# Altium schematic symbol library 002-H-01 SLS to CAN.SchLib: 26 symbols
Pins are listed as number, name and electrical type; pins without a type are passive.

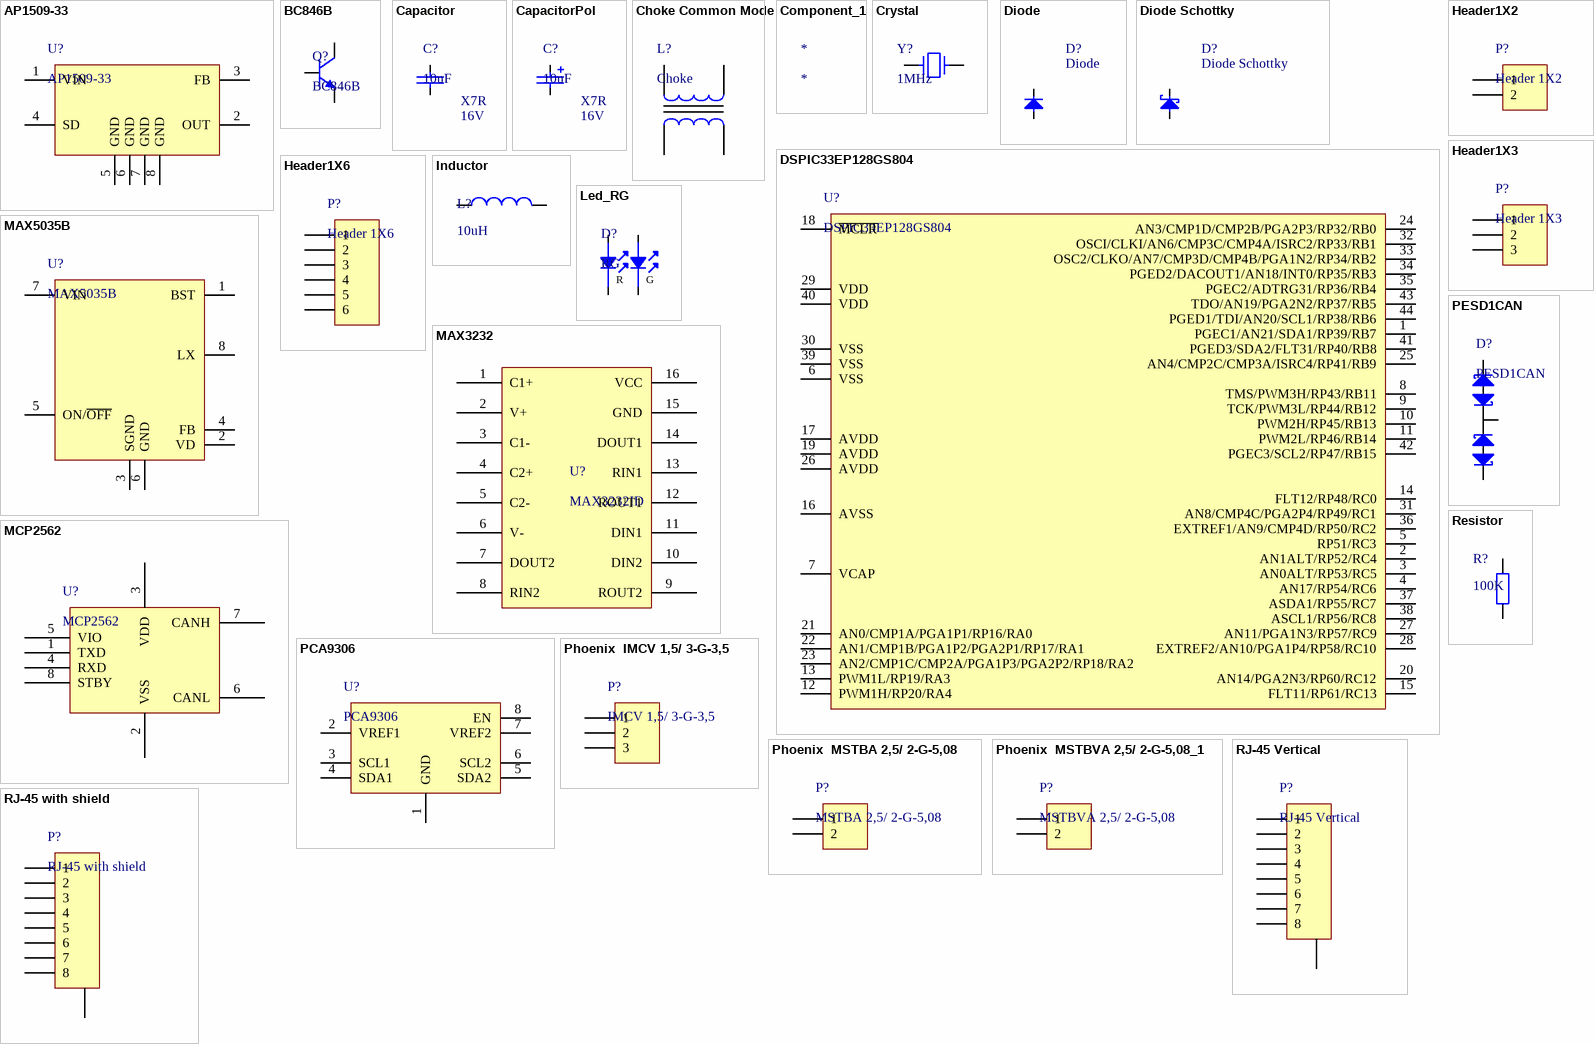
[diagram p0: symbols AP1509-33 to RJ-45 with shield]

## AP1509-33
designator U?
150KHz, 2A PWM BUCK DC/DC CONVERTER; Manufacturer: Diodes Inc; Manufacturer Part No: AP1509-33SG-13; Farnell Ordercode: 1825322; Price: 0.75
footprint SOIC-8N (SOIC, 8-Leads, Body 4.9x3.9mm (max), Pitch 1.27mm, IPC Medium Density)
pins: 1 VIN, 2 OUT, 3 FB, 4 SD, 5 GND, 6 GND, 7 GND, 8 GND

## BC846B
designator Q?
Manufacturer: -; Manufacturer Part No: -; Farnell Ordercode: -; Price: 0.00
footprint SOT23-3N (SOT23, 3-Leads, Body 3.1x3.0mm (max), Pitch 0.95mm, IPC Medium Density)
pins: 1 B, 2 E, 3 C

## Capacitor
designator C?, comment 10uF  Dielectric: X7R  VoltageRating: 16V
Capacitor; Manufacturer: -; Manufacturer Part No: -; Farnell Ordercode: -; Price: 0.00
footprint CAP0805 (Chip Capacitor, 2-Leads, Body 2.0x1.3mm, IPC Medium Density)
footprint CAP1210 (Chip Capacitor, 2-Leads, Body 3.2x2.5mm, IPC Medium Density)
pins: 1, 2

## CapacitorPol
designator C?, comment 10uF  Dielectric: X7R  VoltageRating: 16V
Capacitor Pol; Manufacturer: -; Manufacturer Part No: -; Farnell Ordercode: -; Price: 0.00
footprint CAPP8383X62N (Capacitor SMD, 2-Leads, Body 8.3x8.3mm, IPC Medium Density)
footprint CAPAE4243X55M (Aluminum Electrolytic Capacitor, Body 4,30x4,30x5,50mm, IPC Low Density)
pins: 1, 2

## Choke Common Mode
designator L?, comment Choke
Choke common mode; Manufacturer: *; Manufacturer Part No: *; Farnell Ordercode: *; Price: 0.00
footprint IND200P450X300-4N (IND, 4-Leads, Body 3.4x4.7mm (max), Pitch 2.00mm, IPC Medium Density)
pins: 1, 2, 3, 4

## Component_1
designator *

## Crystal
designator Y?, comment 1MHz
Crystal; Manufacturer: -; Manufacturer Part No: -; Farnell Ordercode: -; Price: 0.00
footprint XT49M-2016M (Crystal, 2-Leads, Body 11.0x4.7mm, IPC Medium Density)
pins: 1, 2

## Diode
designator D?
Manufacturer: -; Manufacturer Part No: -; Farnell Ordercode: -; Price: 0.00
footprint DIODEDO-214AC (Molded Diode, 2-Leads, Body 4.4x2.7mm, IPC Medium Density)
pins: 1 K, 2 A

## Diode Schottky
designator D?
Manufacturer: -; Manufacturer Part No: -; Farnell Ordercode: -; Price: 0.00
footprint DIODEDO-214AC (Molded Diode, 2-Leads, Body 4.4x2.7mm, IPC Medium Density)
pins: 1 K, 2 A

## DSPIC33EP128GS804
designator U?
16-Bit Digital Signal Controllers fo  r Digital Power Applications with   Interconnected High-Speed PWM, ADC, PGA and Comparators; Manufacturer: Microchip; Manufacturer Part No: DSPIC33EP128GS804-I/PT; Farnell Ordercode: 2706170; Price: 4.44
footprint TQFP80P1200X1200X120-44N (TQFP, 44-Leads, Body 12.0x12.0mm (max), Pitch 0.80mm, IPC Medium Density)
pins: 1 PGEC1/AN21/SDA1/RP39/RB7, 2 AN1ALT/RP52/RC4, 3 AN0ALT/RP53/RC5, 4 AN17/RP54/RC6, 5 RP51/RC3, 6 VSS, 7 VCAP, 8 TMS/PWM3H/RP43/RB11, 9 TCK/PWM3L/RP44/RB12, 10 PWM2H/RP45/RB13, 11 PWM2L/RP46/RB14, 12 PWM1H/RP20/RA4, 13 PWM1L/RP19/RA3, 14 FLT12/RP48/RC0, 15 FLT11/RP61/RC13, 16 AVSS, 17 AVDD, 18 ~{MCLR}, 19 AVDD, 20 AN14/PGA2N3/RP60/RC12, 21 AN0/CMP1A/PGA1P1/RP16/RA0, 22 AN1/CMP1B/PGA1P2/PGA2P1/RP17/RA1, 23 AN2/CMP1C/CMP2A/PGA1P3/PGA2P2/RP18/RA2, 24 AN3/CMP1D/CMP2B/PGA2P3/RP32/RB0, 25 AN4/CMP2C/CMP3A/ISRC4/RP41/RB9, 26 AVDD, 27 AN11/PGA1N3/RP57/RC9, 28 EXTREF2/AN10/PGA1P4/RP58/RC10, 29 VDD, 30 VSS, 31 AN8/CMP4C/PGA2P4/RP49/RC1, 32 OSCI/CLKI/AN6/CMP3C/CMP4A/ISRC2/RP33/RB1, 33 OSC2/CLKO/AN7/CMP3D/CMP4B/PGA1N2/RP34/RB2, 34 PGED2/DACOUT1/AN18/INT0/RP35/RB3, 35 PGEC2/ADTRG31/RP36/RB4, 36 EXTREF1/AN9/CMP4D/RP50/RC2, 37 ASDA1/RP55/RC7, 38 ASCL1/RP56/RC8, 39 VSS, 40 VDD, 41 PGED3/SDA2/FLT31/RP40/RB8, 42 PGEC3/SCL2/RP47/RB15, 43 TDO/AN19/PGA2N2/RP37/RB5, 44 PGED1/TDI/AN20/SCL1/RP38/RB6

## Header1X2
designator P?, comment Header 1X2
Connector 1X2; Manufacturer: -; Manufacturer Part No: -; Farnell Ordercode: -; Price: 0.00
footprint MC000168
pins: 1, 2

## Header1X3
designator P?, comment Header 1X3
Connector 1X3; Manufacturer: -; Manufacturer Part No: -; Farnell Ordercode: -; Price: 0.00
footprint Header1X3P100 (Header 1X3, 100mil pitch)
pins: 1, 2, 3

## Header1X6
designator P?, comment Header 1X6
Connector 1X6; Manufacturer: -; Manufacturer Part No: -; Farnell Ordercode: -; Price: 0.00
footprint Header1X6P100 (Header 1X6, 100mil pitch)
pins: 1, 2, 3, 4, 5, 6

## Inductor
designator L?, comment 10uH
Inductor; Manufacturer: -; Manufacturer Part No: -; Farnell Ordercode: -; Price: 0.00
footprint INDP183140X66N (Precision Wire Wound Inductor, 2-Leads, Body 18.3x14.0mm, IPC Medium Density)
footprint INDP3030X28N (Precision Wire Wound Inductor, 2-Leads, Body 3,00x3,00mm, IPC Medium Density)
pins: 1, 2

## Led_RG
designator D?, comment RG
Led RG; Manufacturer: KINGBRIGHT; Manufacturer Part No: KPTB-1612LVSURKCGKC; Farnell Ordercode: 2846591; Price: 0.00
footprint CAC-75P125X160-4N (Chip Array, Concave, 4-Leads, Pitch 0,75mm,  Body 1,25x1,60mm,  IPC Medium Density)
pins: 1 A_R, 2 K_R, 3 A_G, 4 K_G
text: R; G

## MAX3232
designator U?, comment MAX3232ID
RS232 tot TTL converter; Manufacturer: TEXAS INSTRUMENTS; Manufacturer Part No: MAX3232ID; Farnell Ordercode: 1652282; Price: 1.69
footprint SOIC16_MAX3232 (SOIC, 16-Leads, Body 9,90x3,90mm, Pitch 1,27mm, IPC Medium Density)
pins: 1 C1+, 2 V+, 3 C1-, 4 C2+, 5 C2-, 6 V-, 7 DOUT2, 8 RIN2, 9 ROUT2, 10 DIN2, 11 DIN1, 12 ROUT1, 13 RIN1, 14 DOUT1, 15 GND, 16 VCC

## MAX5035B
designator U?
5V 1A, 76V, High-Efficiency MAXPower Step-Down DC-DC Converter; Manufacturer: Maxim Integrated Products; Manufacturer Part No: MAX5035BUSA+T; Farnell Ordercode: 2799102; Price: 3.26
footprint SOIC-8N (SOIC, 8-Leads, Body 4.9x3.9mm (max), Pitch 1.27mm, IPC Medium Density)
pins: 1 BST, 2 VD, 3 SGND, 4 FB, 5 ON/~{OFF}, 6 GND, 7 VIN, 8 LX

## MCP2562
designator U?
CAN Bus, Transceiver, CAN, LIN, 1, 1, 4.5 V, 5.5 V, SOIC; Manufacturer: Microchip; Manufacturer Part No: MCP2562-E/SN; Farnell Ordercode: 2362839; price: 0.79
footprint SOIC-8N (SOIC, 8-Leads, Body 4.9x3.9mm (max), Pitch 1.27mm, IPC Medium Density)
pins: 1 TXD, 2 VSS, 3 VDD, 4 RXD, 5 VIO, 6 CANL, 7 CANH, 8 STBY

## PCA9306
designator U?
Voltage Level Translator, Bidirectional, 2 Input, 64 mA, 900 ps, 0 V to 5 V, SSOP-8; Manufacturer: Texas Instruments; Manufacturer Part No: PCA9306DCTR; Farnell Ordercode: 1470936; Price: 0.52
footprint TSOP65P400X130-8N (TSOP, 8-Leads, Body 3.2x2.9mm (max), Pitch 0.65mm, IPC Medium Density)
pins: 1 GND, 2 VREF1, 3 SCL1, 4 SDA1, 5 SDA2, 6 SCL2, 7 VREF2, 8 EN

## PESD1CAN
designator D?
ESD Protection Device, TVS, 70 V, SOT-23, 3 Pins; Manufacturer: NXP; Manufacturer Part No: PESD1CAN; Farnell Ordercode: 1510703; Price: 0.13
footprint SOT23-3N (SOT23, 3-Leads, Body 3.1x3.0mm (max), Pitch 0.95mm, IPC Medium Density)
pins: 1, 2, 3

## Phoenix  IMCV 1,5/ 3-G-3,5
designator P?, comment IMCV 1,5/ 3-G-3,5
IMCV 1,5/ 3-G-3,5 1830728; Manufacturer: -; Manufacturer Part No: -; Farnell Ordercode: -; Price: 0.00
footprint Phoenix IMCV 1,5/ 3-G-3,81 (IMCV 1,5/ 3-G-3,81 1875438)
pins: 1, 2, 3

## Phoenix  MSTBA 2,5/ 2-G-5,08
designator P?, comment MSTBA 2,5/ 2-G-5,08
MSTBA 2,5/ 2-G-5,08  1757242; Manufacturer: -; Manufacturer Part No: -; Farnell Ordercode: -; Price: 0.00
footprint MSTBA 2,5/ 2-G-5,08 (MSTBA 2,5/ 2-G-5,08 1757242)
pins: 1, 2

## Phoenix  MSTBVA 2,5/ 2-G-5,08_1
designator P?, comment MSTBVA 2,5/ 2-G-5,08
MSTBVA 2,5/ 2-G-5,08  1757242; Manufacturer: -; Manufacturer Part No: -; Farnell Ordercode: -; Price: 0.00
footprint MSTBVA 2,5/ 2-G-5,08
pins: 1, 2

## Resistor
designator R?, comment 100K
Resistor; Tolerance: 1%; Manufacturer: -; Manufacturer Part No: -; Farnell Ordercode: -; Price: 0.00
footprint RES0805 (Chip Resistor, 2-Leads, Body 2.0x1.3mm, IPC Medium Density)
pins: 1, 2

## RJ-45 Vertical
designator P?
Manufacturer: Amphenol; Manufacturer Part No: RJHSE-3P80; Farnell Ordercode: 2709006; Price: 0.908
footprint Amphenol RJ-45 Vertical (MODULAR, JACK, THT, R/A, RJ45, 8P8C, Vertical)
pins: 1, 2, 3, 4, 5, 6, 7, 8, 9 G

## RJ-45 with shield
designator P?
Manufacturer: MULTICOMP; Manufacturer Part No: MC001518; Farnell Ordercode: 2691269; Price: 0.978
footprint TECO-1-406541-5 (MODULAR, JACK, THT, R/A, RJ45, 8P8C)
pins: 1, 2, 3, 4, 5, 6, 7, 8, 9 G